# Altium footprint library PCB - MICROPHONE - CUI CMEJ-0415-42-P.PcbLib: 1 footprints
Each footprint in its own frame and in the unit in brackets; x right, y up, seen from the top. Pads: shape width x height; smd on the part's side, far side on the other; paste and mask are expansions set on the pad; w line width, h text height; cw(c..) or ccw(c..) is an arc to the next point about the centre after c.
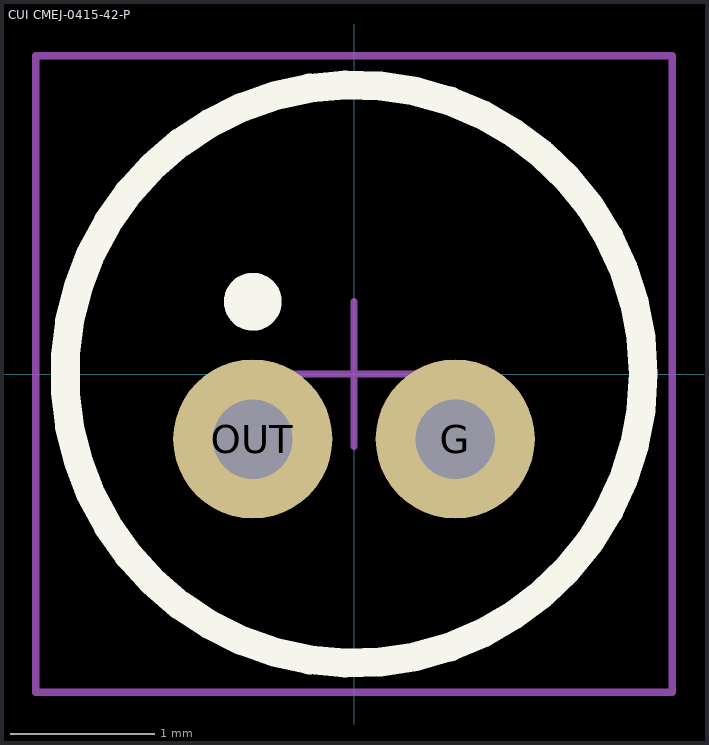
[diagram p0: the footprint, top view; thin cyan lines are the x and y axes]

## CUI CMEJ-0415-42-P [mm] "MIC COND ANALOG OMNI -42DB 4MM D"
height 1
pads (2):
  round 1.1 hole 0.55 mask+0.102: G(0.7,-0.45) OUT(-0.7,-0.45)
Top Overlay:
  circle w0.2: c-0.7,0.5 r0.1
  circle w0.2: c0,0 r2
Mechanical 13:
  circle w0.1: c0,0 r2
Mechanical 15:
  lines w0.05: -0.5,0 0.5,0 ; 0,-0.5 0,0.5 ; -2.2,-2.2 2.2,-2.2 2.2,2.2 -2.2,2.2 -2.2,-2.2
3D body "CUI - CMEJ-0415-42-P.step": height 1.83, standoff -2, extent -2,-2 2,2